# EAGLE library part TLV5616_D_8 (library 0_texas-instrument)
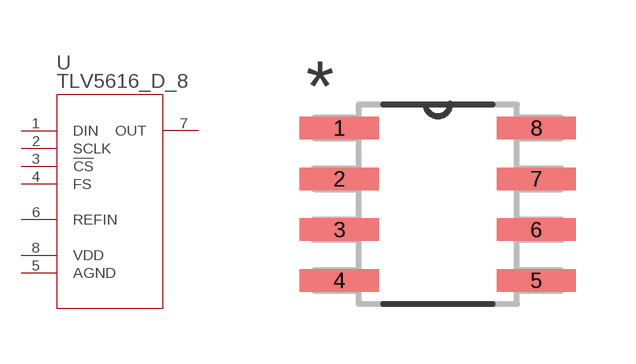
[diagram p2: symbol with the pads of D8; footprint D8]

Designator prefix U

## TLV5616_D_8 (DATASHEETURL: httpwww.ti.comlitgpnTLV5616; FAMILY_NAME: PRECISION DAC =<10MSPS; GENERIC_PART_NUMBER: TLV5616; INDUSTRY_STD_PKG_TYPE: SOIC; MANUFACTURER: Texas Instruments; MANUFACTURER_PART_NUMBER: tlv5616_d_8; PACKAGE_DESIGNATOR: D; PIN_COUNT: 8; VENDOR: Texas Instruments)  [D8]
1  DIN  in
2  SCLK  in
3  !CS  in
4  FS  in
5  AGND  pwr
6  REFIN  in
7  OUT  out
8  VDD  pwr

## Footprint D8 (pad centres in mm)
smd 1.981 x 0.559: 1 -2.464,1.905; 2 -2.464,0.635; 3 -2.464,-0.635; 4 -2.464,-1.905; 5 2.464,-1.905; 6 2.464,-0.635; 7 2.464,0.635; 8 2.464,1.905